# Altium schematic symbol library PEC11-4120F-S0018.Schlib: 1 symbol
Pins are listed as number, name and electrical type; pins without a type are passive.

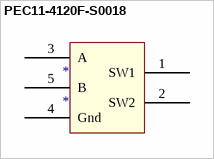
[diagram p0: symbol PEC11-4120F-S0018]

## PEC11-4120F-S0018
designator *
pins: 1 SW1, 2 SW2, 3 A, 4 Gnd, 5 B